# EAGLE library part AUDIO_JACK_C128994 (library pinebook_parts)
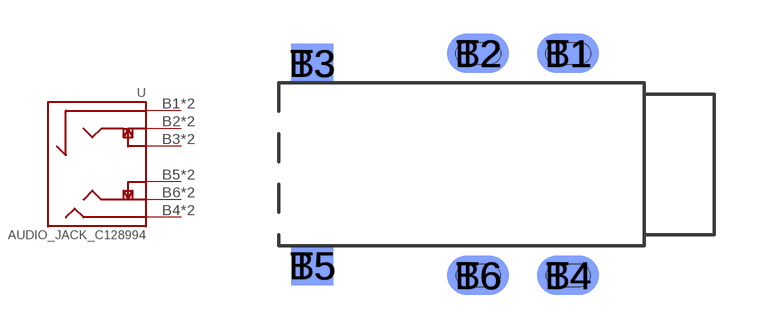
[diagram p1: symbol with the pads of AUDIO_JACK_C128994; footprint AUDIO_JACK_C128994]

Designator prefix -

## AUDIO_JACK_C128994  [AUDIO_JACK_C128994]
B1  1
B2  2
B3  3
B4  4
B5  5
B6  6
T1  1
T2  2
T3  3
T4  4
T5  5
T6  6

## Footprint AUDIO_JACK_C128994 (pad centres in mm)
smd 2.2 x 1.4 bottom: B1 -2.7,3.95; B2 -5.9,3.95; B4 -2.7,-3.95; B6 -5.9,-3.95
smd 1.5 x 1.4 bottom: B3 -11.8,3.6; B5 -11.8,-3.6
smd 2.2 x 1.4: T1 -2.7,3.95; T2 -5.9,3.95; T4 -2.7,-3.95; T6 -5.9,-3.95
smd 1.5 x 1.4: T3 -11.8,3.6; T5 -11.8,-3.6